# Altium footprint library KelvinVoltageMeasureModule.PcbLib: 35 footprints (part 3 of 3)
Each footprint in its own frame and in the unit in brackets; x right, y up, seen from the top. Pads: shape width x height; smd on the part's side, far side on the other; paste and mask are expansions set on the pad; w line width, h text height; cw(c..) or ccw(c..) is an arc to the next point about the centre after c.
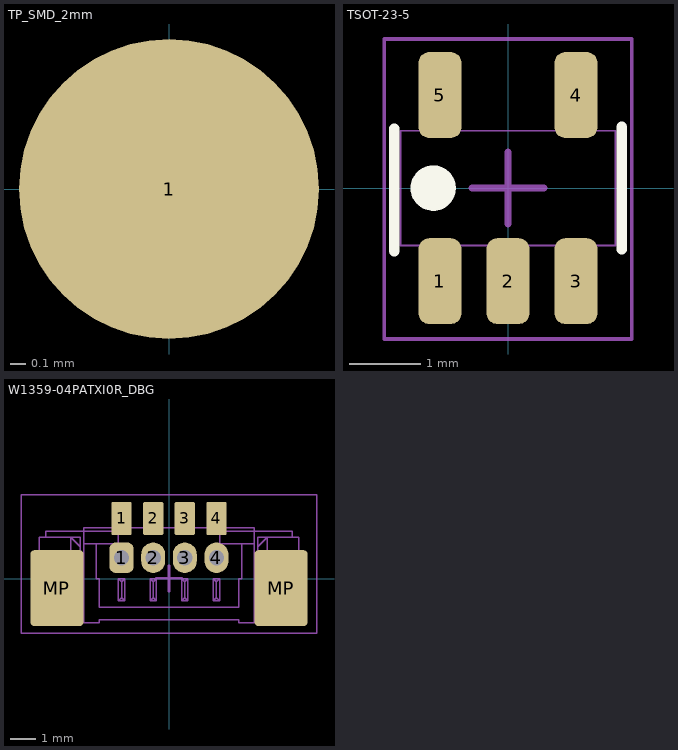
[diagram p2: the footprints below, top view; thin cyan lines are the x and y axes]

## TP_SMD_2mm [mm]
pads (1):
  round 2 smd paste-2 mask+0.05: 1(0,0)
Top Designator:
  text ".Designator" at -1.6,2.2 h0.5
Top Assembly:
  circle w0.025: c0,0 r0.8
  lines w0.025: -0.797,0.003 0,0.8 ; -0.777,-0.177 0.177,0.777 ; -0.762,0.238 -0.242,0.758 ; -0.727,-0.327 0.326,0.726 ; -0.653,-0.453 0.454,0.654 ; -0.565,-0.565 0.564,0.564 ; -0.455,-0.655 0.655,0.455 ; -0.328,-0.728 0.726,0.326 ; -0.176,-0.776 0.778,0.178 ; 0.007,-0.793 0.796,-0.004 ; 0.239,-0.761 0.764,-0.236
Top Value:
  text ".Comment" at -1.6,1.5 h0.5
3D body: height 0.1, standoff 0, extent -0.998,-0.998 0.994,0.998

## TSOT-23-5 [mm]
pads (5):
  rrect50% 0.6x1.2 smd mask+0.05: 1(-0.95,-1.3) 2(0,-1.3) 3(0.95,-1.3) 4(0.95,1.3) 5(-0.95,1.3)
Top Overlay:
  circle w0.254: c-1.045,0 r0.19
  lines w0.15: -1.59,-0.88 -1.59,0.83 ; 1.59,-0.855 1.59,0.855
  lines w0.254: -1.045,-0.19 -1.045,0.19
Top Courtyard:
  lines w0.05: -1.727,-2.108 -1.727,2.083 1.727,2.083 1.727,-2.108 -1.727,-2.108
  lines w0.1: -0.5,0 0.5,0 ; 0,-0.5 0,0.5
Top Designator:
  text ".Designator" at -1.651,2.794 h0.5
Top Assembly:
  lines w0.025: -1.1,-0.8 -1.1,-1.5 -0.8,-1.5 -0.8,-0.8 ; -1.1,0.8 -1.1,1.5 -0.8,1.5 -0.8,0.8 ; -0.15,-0.8 -0.15,-1.5 0.15,-1.5 0.15,-0.8 ; 0.8,-0.8 0.8,-1.5 1.1,-1.5 1.1,-0.8 ; 0.8,0.8 0.8,1.5 1.1,1.5 1.1,0.8 ; -1.5,-0.8 1.5,-0.8 1.5,0.8 -1.5,0.8 -1.5,-0.8
Top Value:
  text ".Comment" at -1.676,2.21 h0.5
3D body "TSOT23-5.STEP": height 0.94, standoff -0.02, extent -1.45,-1.595 1.45,1.601

## W1359-04PATXI0R_DBG [mm]
pads (10):
  rrect50% 0.95x1.2 hole 0.6 paste-2539.97 mask+0.05: 1(-1.875,0.825)
  rrect15% 0.8x1.3 smd paste+0 mask+0.05: 1(-1.875,2.375) 2(-0.625,2.375) 3(0.625,2.375) 4(1.875,2.375)
  oval 0.95x1.2 hole 0.6 paste-2539.97 mask+0.05: 2(-0.625,0.825) 3(0.625,0.825) 4(1.875,0.825)
  rrect15% 2.1x3 smd paste+0 mask+0.05: MP(-4.425,-0.375) MP(4.425,-0.375)
Top Courtyard:
  lines w0.05: -5.842,-2.153 5.842,-2.153 5.842,3.308 -5.842,3.308 -5.842,-2.153
  lines w0.1: -0.5,0.006 0.5,0.006 ; 0,-0.494 0,0.506
Top Designator:
  text ".Designator" at -1.975,4.375 h0.5
Top Assembly:
  lines w0.05: -4.875,1.625 -4.875,1.875 -3.375,1.875 -2,1.875 -2,1.375 -3.375,1.375 ; -3.5,1.25 -3.875,1.625 -3.875,-1.75 ; -3.375,-1.5 -3.5,-1.375 ; -2.875,1.375 -2.875,0 -2.75,0 -2.75,-1.125 2.75,-1.125 2.75,0 2.875,0 2.875,1.375 ; -2,2 -2,2.125 -1.75,2.125 -1.75,2 ; -0.75,2 -0.75,2.125 -0.5,2.125 -0.5,2 ; 0.5,2 0.5,2.125 0.75,2.125 0.75,2 ; 1.75,2 1.75,2.125 2,2.125 2,2 ; 3.375,-1.5 3.5,-1.375 ; 3.375,1.375 2,1.375 2,1.875 3.375,1.875 4.875,1.875 4.875,1.625 ; 3.5,1.25 3.875,1.625 3.875,-1.75 ; -3.875,-1.75 -5.125,-1.75 -5.125,1.625 -3.5,1.625 -3.5,-1.375 ; -3.875,-1.75 -3.5,-1.375 ; -2,-0.875 -1.875,-0.75 ; -2,-0.875 -1.75,-0.875 ; -2,-0.875 -2,0 ; -2,0 -1.875,-0.125 ; -2,0 -1.75,0 ; -1.875,-0.75 -1.75,-0.875 ; -1.875,-0.75 -1.875,-0.125 ; -1.875,-0.125 -1.75,0 ; -1.75,-0.875 -1.75,0 ; -0.75,-0.875 -0.625,-0.75 ; -0.75,-0.875 -0.5,-0.875 ; -0.75,-0.875 -0.75,0 ; -0.75,0 -0.625,-0.125 ; -0.75,0 -0.5,0 ; -0.625,-0.75 -0.5,-0.875 ; -0.625,-0.75 -0.625,-0.125 ; -0.625,-0.125 -0.5,0 ; -0.5,-0.875 -0.5,0 ; 0.5,-0.875 0.625,-0.75 ; 0.5,-0.875 0.75,-0.875 ; 0.5,-0.875 0.5,0 ; 0.5,0 0.625,-0.125 ; 0.5,0 0.75,0 ; 0.625,-0.75 0.75,-0.875 ; 0.625,-0.75 0.625,-0.125 ; 0.625,-0.125 0.75,0 ; 0.75,-0.875 0.75,0 ; 1.75,-0.875 1.875,-0.75 ; 1.75,-0.875 2,-0.875 ; 1.75,-0.875 1.75,0 ; 1.75,0 1.875,-0.125 ; 1.75,0 2,0 ; 1.875,-0.75 2,-0.875 ; 1.875,-0.75 1.875,-0.125 ; 1.875,-0.125 2,0 ; 2,-0.875 2,0 ; 3.5,-1.375 3.875,-1.75 ; 3.5,-1.375 3.5,1.625 5.125,1.625 5.125,-1.75 3.875,-1.75 ; -3.375,-1.75 -3.375,2 3.375,2 3.375,-1.75 2.75,-1.75 2.75,-1.625 -2.75,-1.625 -2.75,-1.75 -3.375,-1.75
Top Value:
  text ".Comment" at -1.95,3.725 h0.5
3D body "533980471.stp": height 4.77, standoff 0.03, extent -5.075,-1.594 5.075,2.606